# EAGLE library part TEXAS_INSTRUMENTS-BUCK_CONTROLLER-LM76003RNPR (library Module_Regulators)
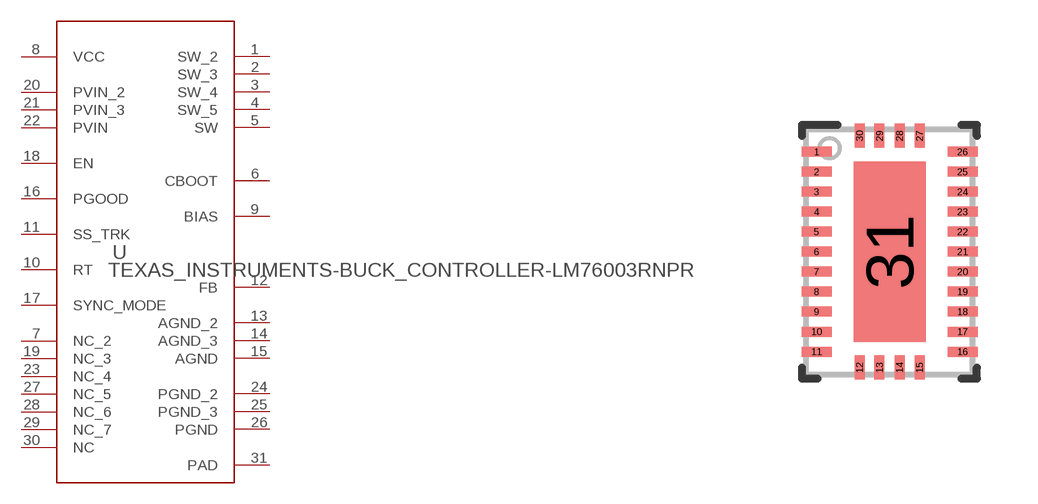
[diagram p36: symbol with the pads of TEXAS_INSTRUMENTS-BUCK_CONTROLLER-LM76003RNPR; footprint TEXAS_INSTRUMENTS-BUCK_CONTROLLER-LM76003RNPR]

Designator prefix U

## TEXAS_INSTRUMENTS-BUCK_CONTROLLER-LM76003RNPR (MANUFACTURER: Texas Instruments; PARTNUMBER: LM76003RNPR; REFDES: RefDes; TYPE: TYPE; VALUE: Value)  [TEXAS_INSTRUMENTS-BUCK_CONTROLLER-LM76003RNPR]
1  SW_2  pwr
2  SW_3  pwr
3  SW_4  pwr
4  SW_5  pwr
5  SW  pwr
6  CBOOT  pwr
7  NC_2  pas
8  VCC  pwr
9  BIAS  pas
10  RT  in
11  SS_TRK  in
12  FB  in
13  AGND_2  pwr
14  AGND_3  pwr
15  AGND  pwr
16  PGOOD  oc
17  SYNC_MODE  in
18  EN  in
19  NC_3  pas
20  PVIN_2  pwr
21  PVIN_3  pwr
22  PVIN  pwr
23  NC_4  pas
24  PGND_2  pwr
25  PGND_3  pwr
26  PGND  pwr
27  NC_5  pas
28  NC_6  pas
29  NC_7  pas
30  NC  pas
31  PAD  pwr

## Footprint TEXAS_INSTRUMENTS-BUCK_CONTROLLER-LM76003RNPR (pad centres in mm)
smd 0.75 x 0.25: 1 -1.825,2.5; 2 -1.825,2; 3 -1.825,1.5; 4 -1.825,1; 5 -1.825,0.5; 6 -1.825,0; 7 -1.825,-0.5; 8 -1.825,-1; 9 -1.825,-1.5; 10 -1.825,-2; 11 -1.825,-2.5; 16 1.825,-2.5; 17 1.825,-2; 18 1.825,-1.5; 19 1.825,-1; 20 1.825,-0.5; 21 1.825,0; 22 1.825,0.5; 23 1.825,1; 24 1.825,1.5; 25 1.825,2; 26 1.825,2.5
smd 0.25 x 0.6: 12 -0.75,-2.9; 13 -0.25,-2.9; 14 0.25,-2.9; 15 0.75,-2.9; 27 0.75,2.9; 28 0.25,2.9; 29 -0.25,2.9; 30 -0.75,2.9
smd 1.8 x 4.5: 31 0,0